# Altium schematic symbol library Temp_lib.SchLib: 15 symbols
Pins are listed as number, name and electrical type; pins without a type are passive.

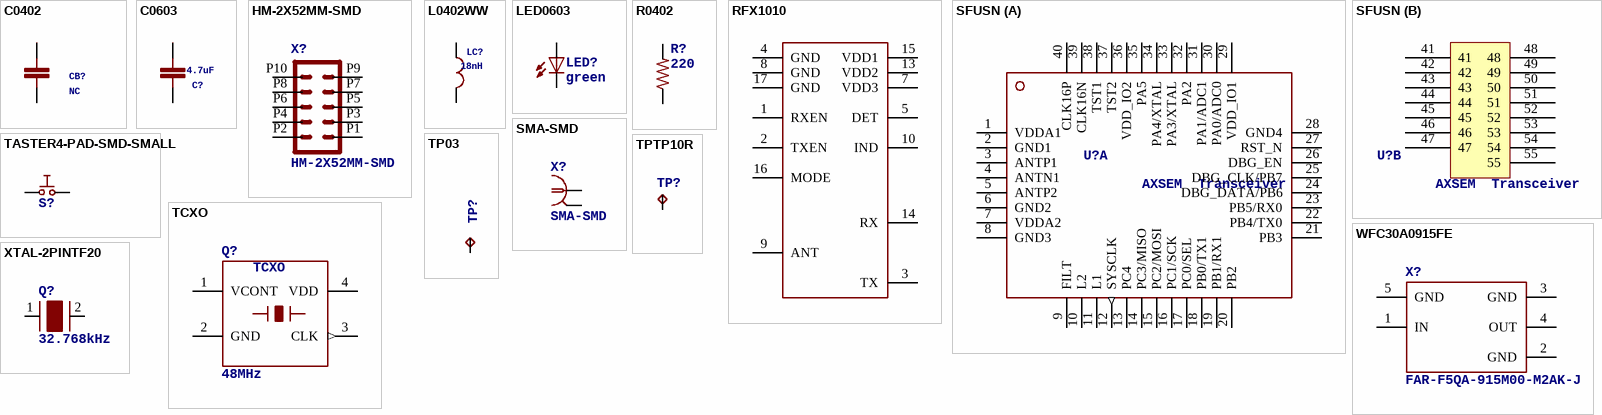
[diagram p0: symbols C0402 to XTAL-2PINTF20]

## C0402
designator CB?, comment NC
footprint C0402
pins: 1, 2

## C0603
designator C?, comment 4.7uF
footprint C0603
pins: 1, 2

## HM-2X52MM-SMD
designator X?
footprint HM-2MM-2X5-SMD
pins: P1 1, P2 2, P3 3, P4 4, P5 5, P6 6, P7 7, P8 8, P9 9, P10 10

## L0402WW
designator LC?, comment 18nH
footprint L0402WW
pins: 1, 2

## LED0603
designator LED?, comment green
footprint LED0603
pins: A, C

## R0402
designator R?, comment 220
footprint R0402
pins: 3 1, 4 2

## RFX1010
designator U$?  (value not drawn)
footprint QFN16_TH
pins: 1 RXEN, 2 TXEN, 3 TX, 4 GND, 5 DET, 7 VDD3, 8 GND, 9 ANT, 10 IND, 13 VDD2, 14 RX, 15 VDD1, 16 MODE, 17 GND

## SFUSN
designator U?  AXSEM
Transceiver: AXSEM / Transceiver  (hidden comment: SFUSN)
AX-SFUS-1-01 for Sigfox RCZ2 application (AT variant), AX-SFUS-API-1-01 for Sigfox RCZ2 application (API variant), AX8052F143 for general purpose (non Sigfox) application
footprint QFN40
part A pins: 1 VDDA1 (power), 2 GND1 (power), 3 ANTP1, 4 ANTN1, 5 ANTP2, 6 GND2 (power), 7 VDDA2 (power), 8 GND3 (power), 9 FILT, 10 L2, 11 L1, 12 SYSCLK (out), 13 PC4, 14 PC3/MISO, 15 PC2/MOSI, 16 PC1/SCK, 17 PC0/SEL, 18 PB0/TX1, 19 PB1/RX1, 20 PB2, 21 PB3, 22 PB4/TX0, 23 PB5/RX0, 24 DBG_DATA/PB6, 25 DBG_CLK/PB7, 26 DBG_EN, 27 RST_N, 28 GND4 (power), 29 VDD_IO1 (power), 30 PA0/ADC0, 31 PA1/ADC1, 32 PA2, 33 PA3/XTAL, 34 PA4/XTAL, 35 PA5, 36 VDD_IO2, 37 TST2, 38 TST1, 39 CLK16N, 40 CLK16P
part B pins: 41, 42, 43, 44, 45, 46, 47, 48, 49, 50, 51, 52, 53, 54, 55

## SMA-SMD
designator X?
SMA 50 Ohm Straight Jack Receptacle - Surface Mount   www.johnsoncomponents.com Source:  http://catalog.digikey.com .. 142-0711-201, 205, 202, 206.pdf
footprint SMA-SMD
pins: 1, 2@1 GND (power)

## TASTER4-PAD-SMD-SMALL
designator S?  (value not drawn)
AXSEM tasters
footprint TASTER_SMALL_SMD_4PAD
pins: P1 1, P3 2

## TCXO
designator Q?, comment 48MHz
TCXO: TCXO
footprint X2016
pins: 1 VCONT, 2 GND (power), 3 CLK (out), 4 VDD (power)

## TP03
designator TP?  (value not drawn)
Test pad
footprint PIN-03
pins: P$1 TP

## TPTP10R
designator TP?  (value not drawn)
Test pad
footprint TP10R
pins: TP

## WFC30A0915FE
designator X?, comment FAR-F5QA-915M00-M2AK-J
footprint SAW_1.4X1.1X0.5
pins: 1 IN, 2 GND, 3 GND, 4 OUT, 5 GND

## XTAL-2PINTF20
designator Q?, comment 32.768kHz
footprint TF20
pins: 1 P1, 2 P2